# Altium schematic symbol library RbMotor_ECAT_RevB+.SchLib: 83 symbols
Pins are listed as number, name and electrical type; pins without a type are passive.

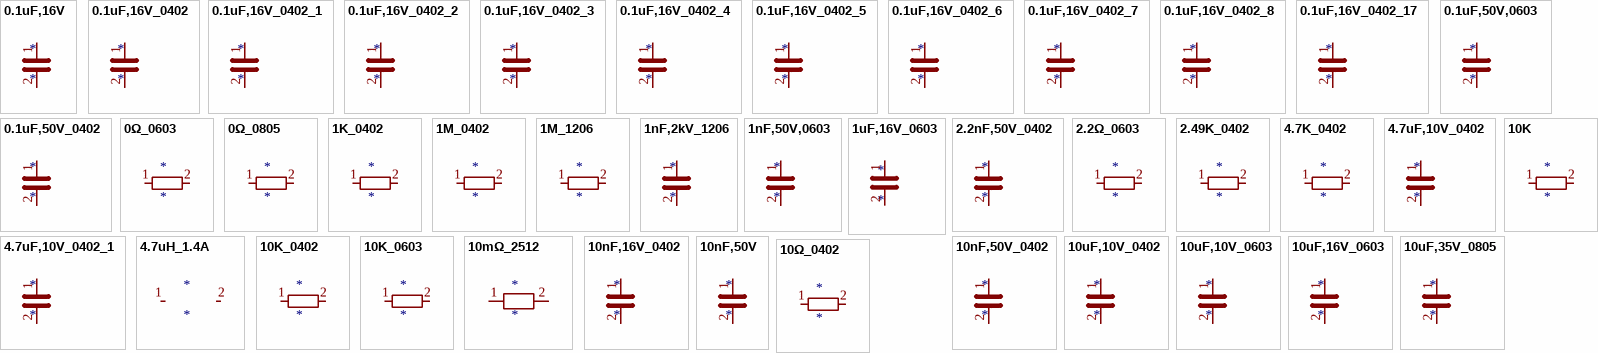
[diagram p0: symbols 0.1uF,16V to 10Ω_0402]

## 0.1uF,16V
designator *
pins: 1, 2

## 0.1uF,16V_0402
designator *
pins: 1, 2

## 0.1uF,16V_0402_1
designator *
pins: 1, 2

## 0.1uF,16V_0402_2
designator *
pins: 1, 2

## 0.1uF,16V_0402_3
designator *
pins: 1, 2

## 0.1uF,16V_0402_4
designator *
pins: 1, 2

## 0.1uF,16V_0402_5
designator *
pins: 1, 2

## 0.1uF,16V_0402_6
designator *
pins: 1, 2

## 0.1uF,16V_0402_7
designator *
pins: 1, 2

## 0.1uF,16V_0402_8
designator *
pins: 1, 2

## 0.1uF,16V_0402_17
designator *
pins: 1, 2

## 0.1uF,50V,0603
designator *
pins: 1, 2

## 0.1uF,50V_0402
designator *
pins: 1, 2

## 0Ω_0603
designator *
pins: 1, 2

## 0Ω_0805
designator *
pins: 1, 2

## 1K_0402
designator *
pins: 1, 2

## 1M_0402
designator *
pins: 1, 2

## 1M_1206
designator *
pins: 1, 2

## 1nF,2kV_1206
designator *
pins: 1, 2

## 1nF,50V,0603
designator *
pins: 1, 2

## 1uF,16V_0603
designator *
pins: 1, 2

## 2.2nF,50V_0402
designator *
pins: 1, 2

## 2.2Ω_0603
designator *
pins: 1, 2

## 2.49K_0402
designator *
pins: 1, 2

## 4.7K_0402
designator *
pins: 1, 2

## 4.7uF,10V_0402
designator *
pins: 1, 2

## 4.7uF,10V_0402_1
designator *
pins: 1, 2

## 4.7uH_1.4A
designator *
pins: 1, 2

## 10K
designator *
pins: 1, 2

## 10K_0402
designator *
pins: 1, 2

## 10K_0603
designator *
pins: 1, 2

## 10mΩ_2512
designator *
pins: 1, 2

## 10nF,16V_0402
designator *
pins: 1, 2

## 10nF,50V
designator *
pins: 1, 2

## 10nF,50V_0402
designator *
pins: 1, 2

## 10uF,10V_0402
designator *
pins: 1, 2

## 10uF,10V_0603
designator *
pins: 1, 2

## 10uF,16V_0603
designator *
pins: 1, 2

## 10uF,35V_0805
designator *
pins: 1, 2

## 10Ω_0402
designator *
pins: 1, 2

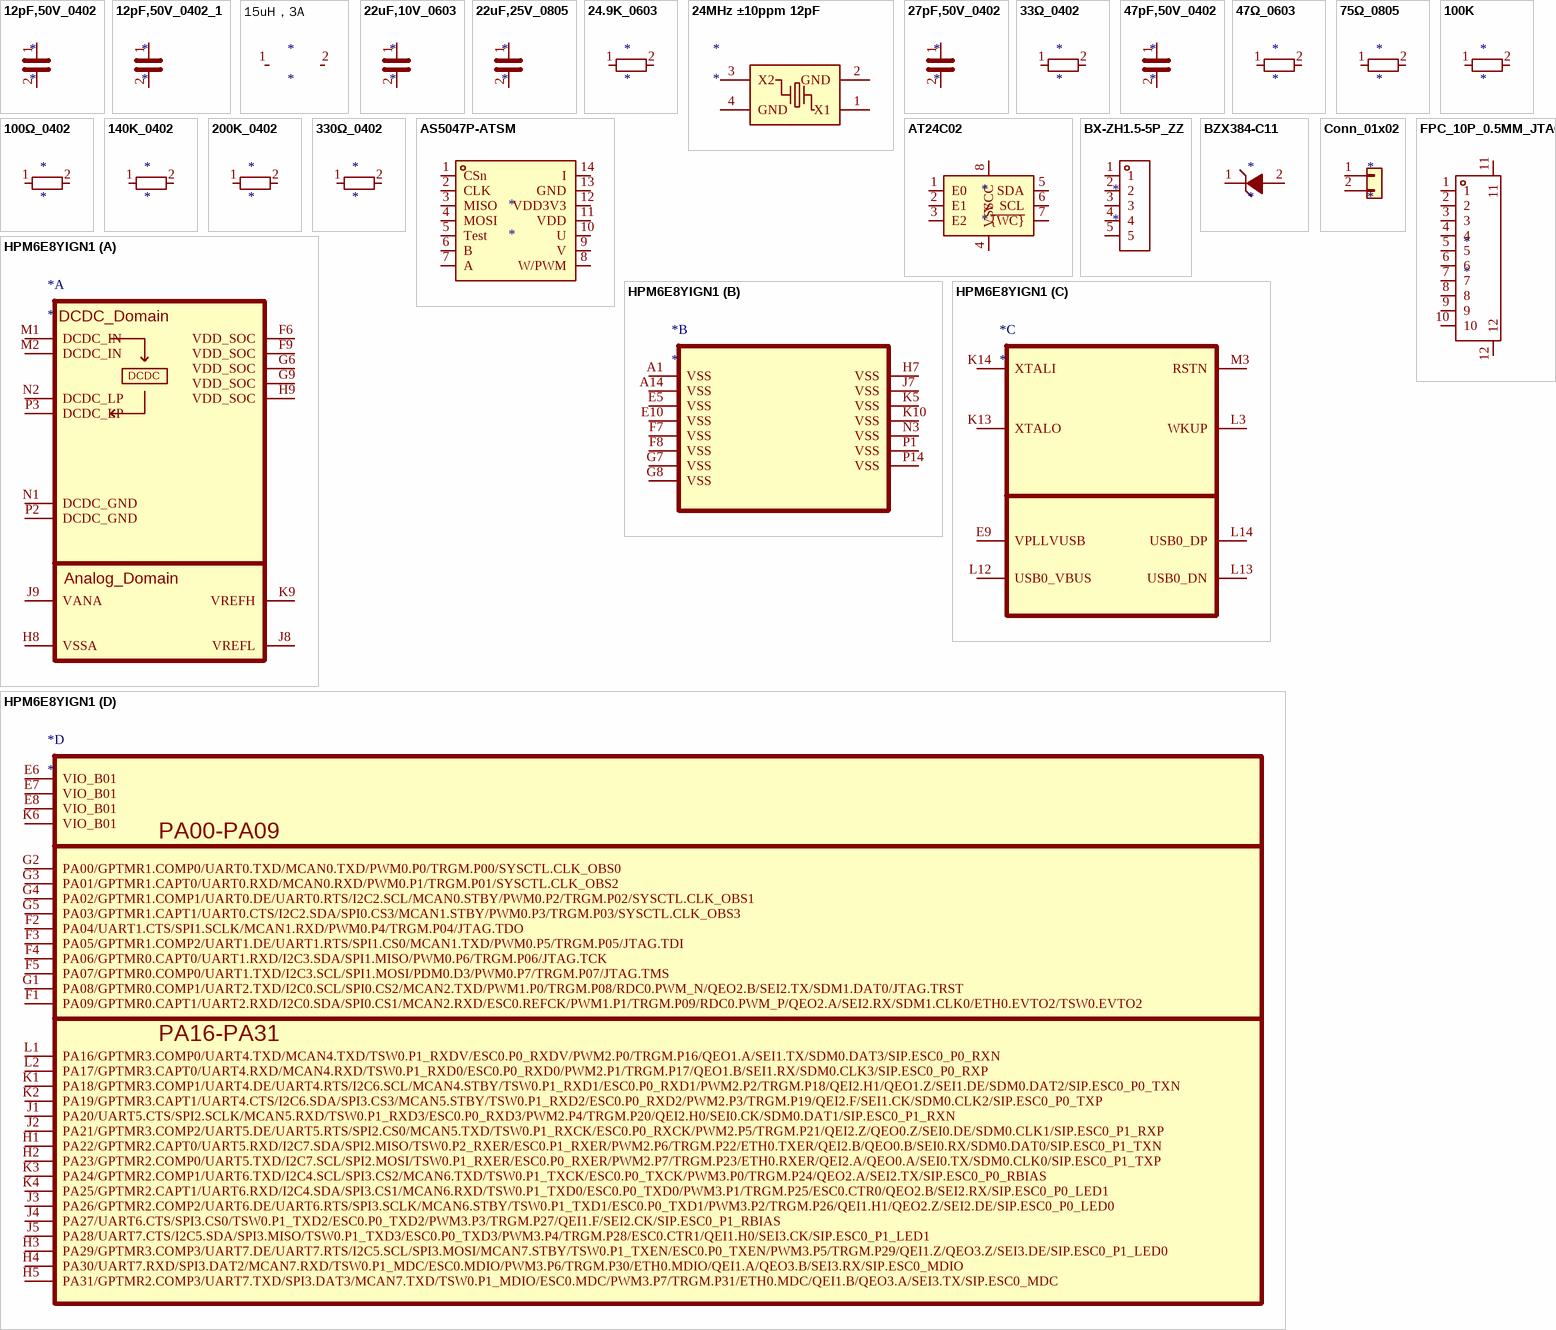
[diagram p1: symbols 12pF,50V_0402 to HPM6E8YIGN1]

## 12pF,50V_0402
designator *
pins: 1, 2

## 12pF,50V_0402_1
designator *
pins: 1, 2

## 15uH，3A
designator *
pins: 1, 2

## 22uF,10V_0603
designator *
pins: 1, 2

## 22uF,25V_0805
designator *
pins: 1, 2

## 24.9K_0603
designator *
pins: 1, 2

## 24MHz ±10ppm 12pF
designator *
pins: 1 X1, 2 GND, 3 X2, 4 GND

## 27pF,50V_0402
designator *
pins: 1, 2

## 33Ω_0402
designator *
pins: 1, 2

## 47pF,50V_0402
designator *
pins: 1, 2

## 47Ω_0603
designator *
pins: 1, 2

## 75Ω_0805
designator *
pins: 1, 2

## 100K
designator *
pins: 1, 2

## 100Ω_0402
designator *
pins: 1, 2

## 140K_0402
designator *
pins: 1, 2

## 200K_0402
designator *
pins: 1, 2

## 330Ω_0402
designator *
pins: 1, 2

## AS5047P-ATSM
designator *
pins: 1 CSn, 2 CLK, 3 MISO, 4 MOSI, 5 Test, 6 B, 7 A, 8 W/PWM, 9 V, 10 U, 11 VDD, 12 VDD3V3, 13 GND, 14 I

## AT24C02
designator *
pins: 1 E0, 2 E1, 3 E2, 4 VSS, 5 SDA, 6 SCL, 7 ~{{WC}}, 8 VCC

## BX-ZH1.5-5P_ZZ
designator *
pins: 1, 2, 3, 4, 5

## BZX384-C11
designator *
pins: 1 C, 2 A

## Conn_01x02
designator *
pins: 1 Pin_1, 2 Pin_2

## FPC_10P_0.5MM_JTAG
designator *
pins: 1, 2, 3, 4, 5, 6, 7, 8, 9, 10, 11, 12

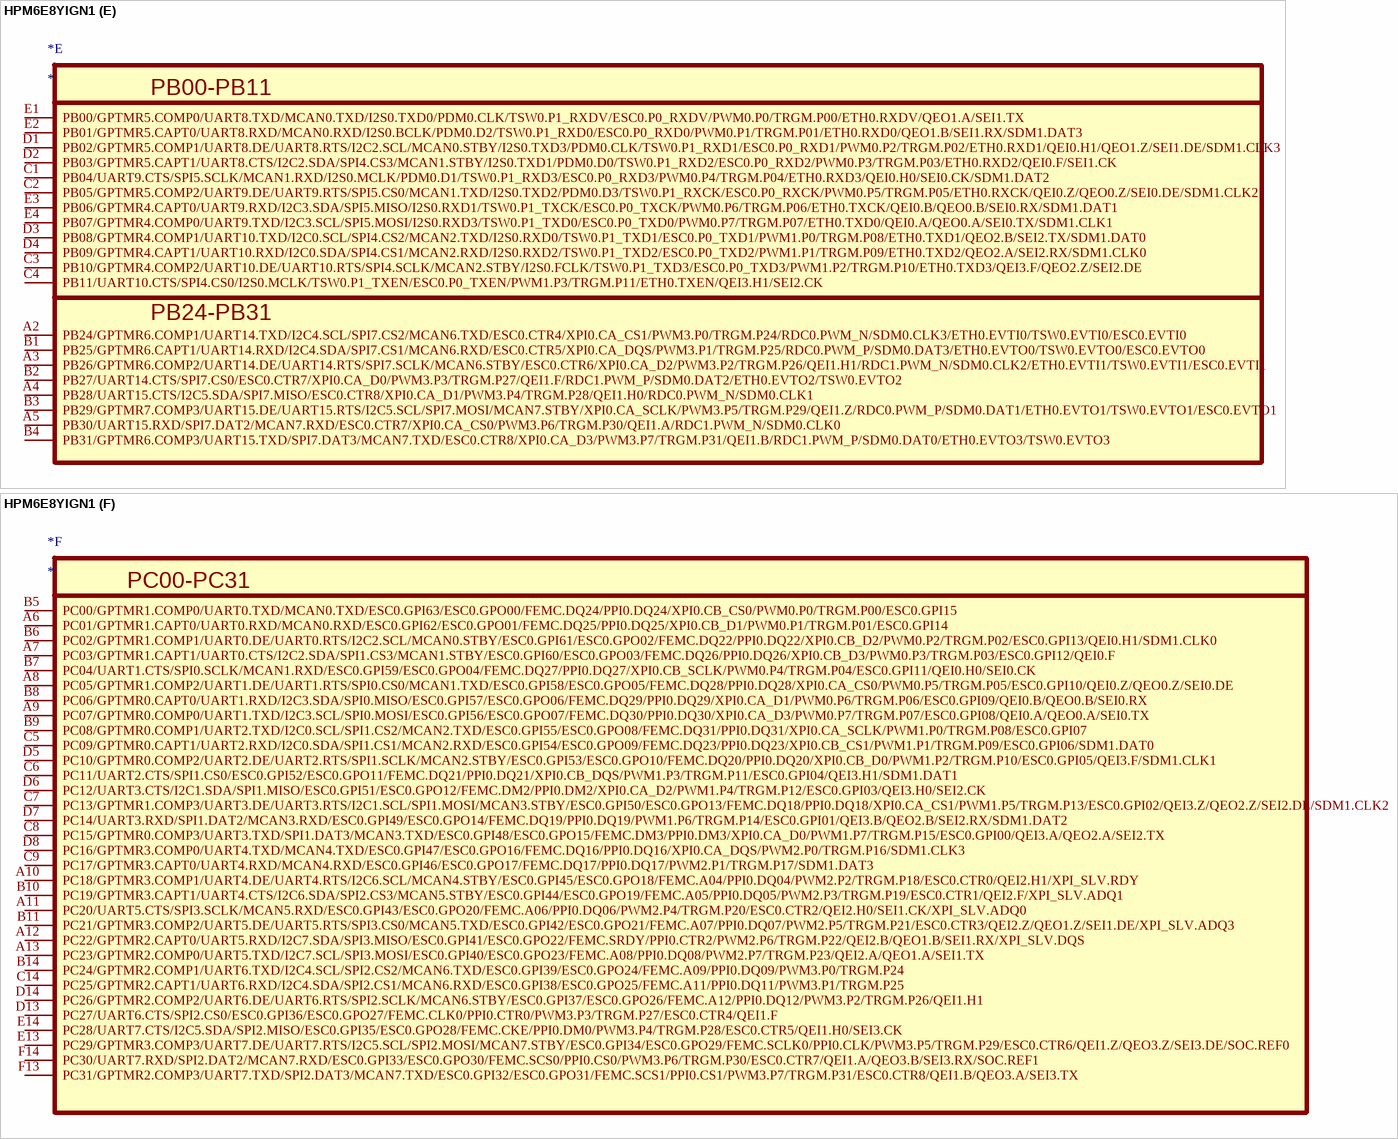
[diagram p2: symbol HPM6E8YIGN1]

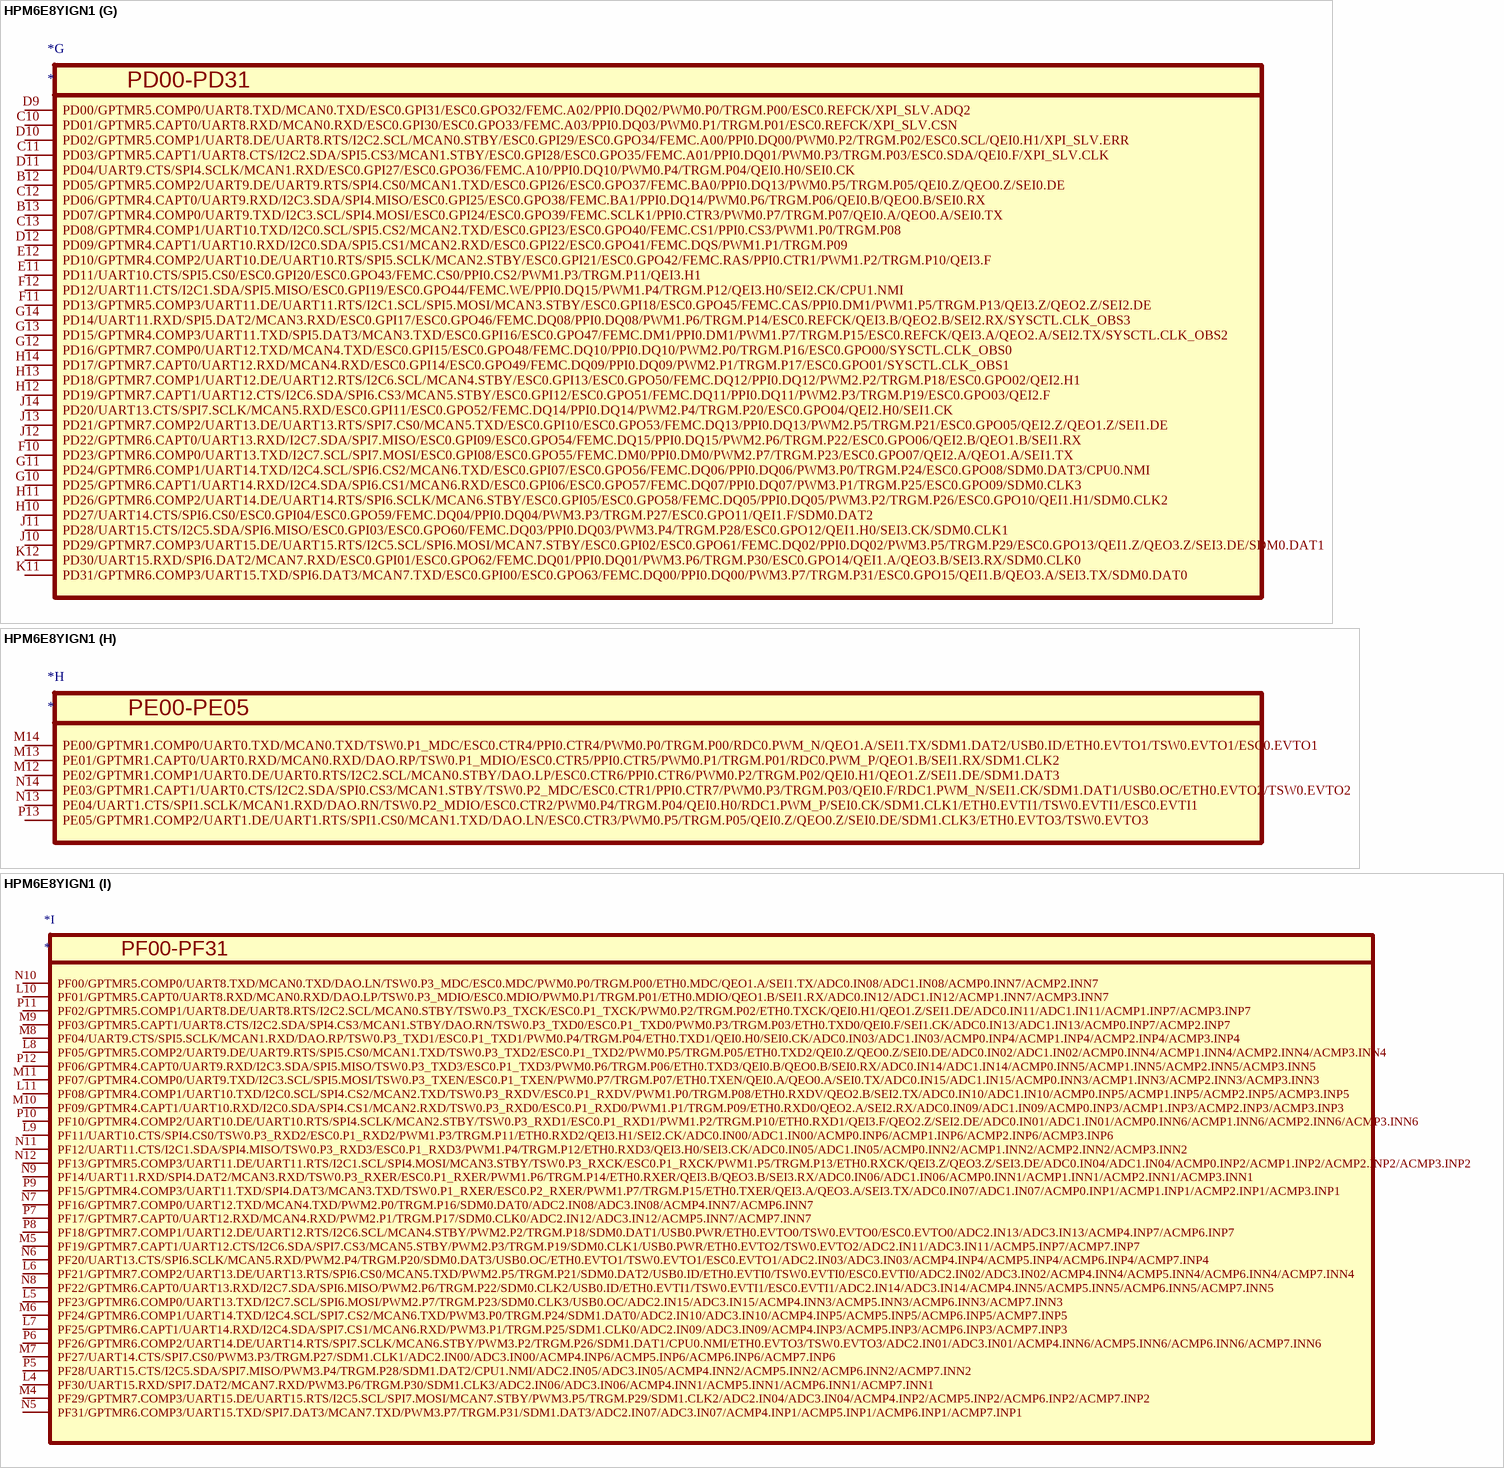
[diagram p3: symbol HPM6E8YIGN1]

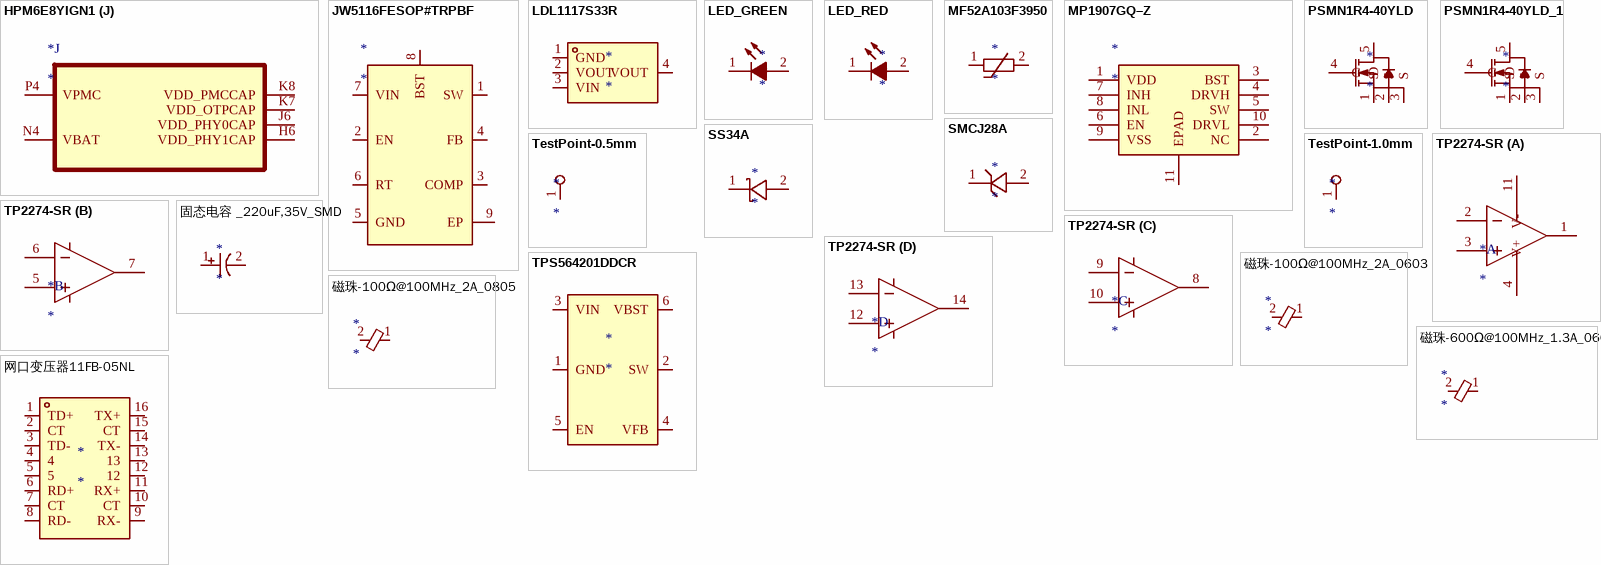
[diagram p4: symbols HPM6E8YIGN1 to 网口变压器11FB-05NL]

## HPM6E8YIGN1
designator *
part A pins: F6 VDD_SOC, F9 VDD_SOC, G6 VDD_SOC, G9 VDD_SOC, H8 VSSA, H9 VDD_SOC, J8 VREFL, J9 VANA, K9 VREFH, M1 DCDC_IN, M2 DCDC_IN, N1 DCDC_GND, N2 DCDC_LP, P2 DCDC_GND, P3 DCDC_LP
part B pins: A1 VSS, A14 VSS, E5 VSS, E10 VSS, F7 VSS, F8 VSS, G7 VSS, G8 VSS, H7 VSS, J7 VSS, K5 VSS, K10 VSS, N3 VSS, P1 VSS, P14 VSS
part C pins: E9 VPLLVUSB, K13 XTALO, K14 XTALI, L3 WKUP, L12 USB0_VBUS, L13 USB0_DN, L14 USB0_DP, M3 RSTN
part D pins: E6 VIO_B01, E7 VIO_B01, E8 VIO_B01, F1 PA09/GPTMR0.CAPT1/UART2.RXD/I2C0.SDA/SPI0.CS1/MCAN2.RXD/ESC0.REFCK/PWM1.P1/TRGM.P09/RDC0.PWM_P/QEO2.A/SEI2.RX/SDM1.CLK0/ETH0.EVTO2/TSW0.EVTO2, F2 PA04/UART1.CTS/SPI1.SCLK/MCAN1.RXD/PWM0.P4/TRGM.P04/JTAG.TDO, F3 PA05/GPTMR1.COMP2/UART1.DE/UART1.RTS/SPI1.CS0/MCAN1.TXD/PWM0.P5/TRGM.P05/JTAG.TDI, F4 PA06/GPTMR0.CAPT0/UART1.RXD/I2C3.SDA/SPI1.MISO/PWM0.P6/TRGM.P06/JTAG.TCK, F5 PA07/GPTMR0.COMP0/UART1.TXD/I2C3.SCL/SPI1.MOSI/PDM0.D3/PWM0.P7/TRGM.P07/JTAG.TMS, G1 PA08/GPTMR0.COMP1/UART2.TXD/I2C0.SCL/SPI0.CS2/MCAN2.TXD/PWM1.P0/TRGM.P08/RDC0.PWM_N/QEO2.B/SEI2.TX/SDM1.DAT0/JTAG.TRST, G2 PA00/GPTMR1.COMP0/UART0.TXD/MCAN0.TXD/PWM0.P0/TRGM.P00/SYSCTL.CLK_OBS0, G3 PA01/GPTMR1.CAPT0/UART0.RXD/MCAN0.RXD/PWM0.P1/TRGM.P01/SYSCTL.CLK_OBS2, G4 PA02/GPTMR1.COMP1/UART0.DE/UART0.RTS/I2C2.SCL/MCAN0.STBY/PWM0.P2/TRGM.P02/SYSCTL.CLK_OBS1, G5 PA03/GPTMR1.CAPT1/UART0.CTS/I2C2.SDA/SPI0.CS3/MCAN1.STBY/PWM0.P3/TRGM.P03/SYSCTL.CLK_OBS3, H1 PA22/GPTMR2.CAPT0/UART5.RXD/I2C7.SDA/SPI2.MISO/TSW0.P2_RXER/ESC0.P1_RXER/PWM2.P6/TRGM.P22/ETH0.TXER/QEI2.B/QEO0.B/SEI0.RX/SDM0.DAT0/SIP.ESC0_P1_TXN, H2 PA23/GPTMR2.COMP0/UART5.TXD/I2C7.SCL/SPI2.MOSI/TSW0.P1_RXER/ESC0.P0_RXER/PWM2.P7/TRGM.P23/ETH0.RXER/QEI2.A/QEO0.A/SEI0.TX/SDM0.CLK0/SIP.ESC0_P1_TXP, H3 PA29/GPTMR3.COMP3/UART7.DE/UART7.RTS/I2C5.SCL/SPI3.MOSI/MCAN7.STBY/TSW0.P1_TXEN/ESC0.P0_TXEN/PWM3.P5/TRGM.P29/QEI1.Z/QEO3.Z/SEI3.DE/SIP.ESC0_P1_LED0, H4 PA30/UART7.RXD/SPI3.DAT2/MCAN7.RXD/TSW0.P1_MDC/ESC0.MDIO/PWM3.P6/TRGM.P30/ETH0.MDIO/QEI1.A/QEO3.B/SEI3.RX/SIP.ESC0_MDIO, H5 PA31/GPTMR2.COMP3/UART7.TXD/SPI3.DAT3/MCAN7.TXD/TSW0.P1_MDIO/ESC0.MDC/PWM3.P7/TRGM.P31/ETH0.MDC/QEI1.B/QEO3.A/SEI3.TX/SIP.ESC0_MDC, J1 PA20/UART5.CTS/SPI2.SCLK/MCAN5.RXD/TSW0.P1_RXD3/ESC0.P0_RXD3/PWM2.P4/TRGM.P20/QEI2.H0/SEI0.CK/SDM0.DAT1/SIP.ESC0_P1_RXN, J2 PA21/GPTMR3.COMP2/UART5.DE/UART5.RTS/SPI2.CS0/MCAN5.TXD/TSW0.P1_RXCK/ESC0.P0_RXCK/PWM2.P5/TRGM.P21/QEI2.Z/QEO0.Z/SEI0.DE/SDM0.CLK1/SIP.ESC0_P1_RXP, J3 PA26/GPTMR2.COMP2/UART6.DE/UART6.RTS/SPI3.SCLK/MCAN6.STBY/TSW0.P1_TXD1/ESC0.P0_TXD1/PWM3.P2/TRGM.P26/QEI1.H1/QEO2.Z/SEI2.DE/SIP.ESC0_P0_LED0, J4 PA27/UART6.CTS/SPI3.CS0/TSW0.P1_TXD2/ESC0.P0_TXD2/PWM3.P3/TRGM.P27/QEI1.F/SEI2.CK/SIP.ESC0_P1_RBIAS, J5 PA28/UART7.CTS/I2C5.SDA/SPI3.MISO/TSW0.P1_TXD3/ESC0.P0_TXD3/PWM3.P4/TRGM.P28/ESC0.CTR1/QEI1.H0/SEI3.CK/SIP.ESC0_P1_LED1, K1 PA18/GPTMR3.COMP1/UART4.DE/UART4.RTS/I2C6.SCL/MCAN4.STBY/TSW0.P1_RXD1/ESC0.P0_RXD1/PWM2.P2/TRGM.P18/QEI2.H1/QEO1.Z/SEI1.DE/SDM0.DAT2/SIP.ESC0_P0_TXN, K2 PA19/GPTMR3.CAPT1/UART4.CTS/I2C6.SDA/SPI3.CS3/MCAN5.STBY/TSW0.P1_RXD2/ESC0.P0_RXD2/PWM2.P3/TRGM.P19/QEI2.F/SEI1.CK/SDM0.CLK2/SIP.ESC0_P0_TXP, K3 PA24/GPTMR2.COMP1/UART6.TXD/I2C4.SCL/SPI3.CS2/MCAN6.TXD/TSW0.P1_TXCK/ESC0.P0_TXCK/PWM3.P0/TRGM.P24/QEO2.A/SEI2.TX/SIP.ESC0_P0_RBIAS, K4 PA25/GPTMR2.CAPT1/UART6.RXD/I2C4.SDA/SPI3.CS1/MCAN6.RXD/TSW0.P1_TXD0/ESC0.P0_TXD0/PWM3.P1/TRGM.P25/ESC0.CTR0/QEO2.B/SEI2.RX/SIP.ESC0_P0_LED1, K6 VIO_B01, L1 PA16/GPTMR3.COMP0/UART4.TXD/MCAN4.TXD/TSW0.P1_RXDV/ESC0.P0_RXDV/PWM2.P0/TRGM.P16/QEO1.A/SEI1.TX/SDM0.DAT3/SIP.ESC0_P0_RXN, L2 PA17/GPTMR3.CAPT0/UART4.RXD/MCAN4.RXD/TSW0.P1_RXD0/ESC0.P0_RXD0/PWM2.P1/TRGM.P17/QEO1.B/SEI1.RX/SDM0.CLK3/SIP.ESC0_P0_RXP
part E pins: A2 PB24/GPTMR6.COMP1/UART14.TXD/I2C4.SCL/SPI7.CS2/MCAN6.TXD/ESC0.CTR4/XPI0.CA_CS1/PWM3.P0/TRGM.P24/RDC0.PWM_N/SDM0.CLK3/ETH0.EVTI0/TSW0.EVTI0/ESC0.EVTI0, A3 PB26/GPTMR6.COMP2/UART14.DE/UART14.RTS/SPI7.SCLK/MCAN6.STBY/ESC0.CTR6/XPI0.CA_D2/PWM3.P2/TRGM.P26/QEI1.H1/RDC1.PWM_N/SDM0.CLK2/ETH0.EVTI1/TSW0.EVTI1/ESC0.EVTI1, A4 PB28/UART15.CTS/I2C5.SDA/SPI7.MISO/ESC0.CTR8/XPI0.CA_D1/PWM3.P4/TRGM.P28/QEI1.H0/RDC0.PWM_N/SDM0.CLK1, A5 PB30/UART15.RXD/SPI7.DAT2/MCAN7.RXD/ESC0.CTR7/XPI0.CA_CS0/PWM3.P6/TRGM.P30/QEI1.A/RDC1.PWM_N/SDM0.CLK0, B1 PB25/GPTMR6.CAPT1/UART14.RXD/I2C4.SDA/SPI7.CS1/MCAN6.RXD/ESC0.CTR5/XPI0.CA_DQS/PWM3.P1/TRGM.P25/RDC0.PWM_P/SDM0.DAT3/ETH0.EVTO0/TSW0.EVTO0/ESC0.EVTO0, B2 PB27/UART14.CTS/SPI7.CS0/ESC0.CTR7/XPI0.CA_D0/PWM3.P3/TRGM.P27/QEI1.F/RDC1.PWM_P/SDM0.DAT2/ETH0.EVTO2/TSW0.EVTO2, B3 PB29/GPTMR7.COMP3/UART15.DE/UART15.RTS/I2C5.SCL/SPI7.MOSI/MCAN7.STBY/XPI0.CA_SCLK/PWM3.P5/TRGM.P29/QEI1.Z/RDC0.PWM_P/SDM0.DAT1/ETH0.EVTO1/TSW0.EVTO1/ESC0.EVTO1, B4 PB31/GPTMR6.COMP3/UART15.TXD/SPI7.DAT3/MCAN7.TXD/ESC0.CTR8/XPI0.CA_D3/PWM3.P7/TRGM.P31/QEI1.B/RDC1.PWM_P/SDM0.DAT0/ETH0.EVTO3/TSW0.EVTO3, C1 PB04/UART9.CTS/SPI5.SCLK/MCAN1.RXD/I2S0.MCLK/PDM0.D1/TSW0.P1_RXD3/ESC0.P0_RXD3/PWM0.P4/TRGM.P04/ETH0.RXD3/QEI0.H0/SEI0.CK/SDM1.DAT2, C2 PB05/GPTMR5.COMP2/UART9.DE/UART9.RTS/SPI5.CS0/MCAN1.TXD/I2S0.TXD2/PDM0.D3/TSW0.P1_RXCK/ESC0.P0_RXCK/PWM0.P5/TRGM.P05/ETH0.RXCK/QEI0.Z/QEO0.Z/SEI0.DE/SDM1.CLK2, C3 PB10/GPTMR4.COMP2/UART10.DE/UART10.RTS/SPI4.SCLK/MCAN2.STBY/I2S0.FCLK/TSW0.P1_TXD3/ESC0.P0_TXD3/PWM1.P2/TRGM.P10/ETH0.TXD3/QEI3.F/QEO2.Z/SEI2.DE, C4 PB11/UART10.CTS/SPI4.CS0/I2S0.MCLK/TSW0.P1_TXEN/ESC0.P0_TXEN/PWM1.P3/TRGM.P11/ETH0.TXEN/QEI3.H1/SEI2.CK, D1 PB02/GPTMR5.COMP1/UART8.DE/UART8.RTS/I2C2.SCL/MCAN0.STBY/I2S0.TXD3/PDM0.CLK/TSW0.P1_RXD1/ESC0.P0_RXD1/PWM0.P2/TRGM.P02/ETH0.RXD1/QEI0.H1/QEO1.Z/SEI1.DE/SDM1.CLK3, D2 PB03/GPTMR5.CAPT1/UART8.CTS/I2C2.SDA/SPI4.CS3/MCAN1.STBY/I2S0.TXD1/PDM0.D0/TSW0.P1_RXD2/ESC0.P0_RXD2/PWM0.P3/TRGM.P03/ETH0.RXD2/QEI0.F/SEI1.CK, D3 PB08/GPTMR4.COMP1/UART10.TXD/I2C0.SCL/SPI4.CS2/MCAN2.TXD/I2S0.RXD0/TSW0.P1_TXD1/ESC0.P0_TXD1/PWM1.P0/TRGM.P08/ETH0.TXD1/QEO2.B/SEI2.TX/SDM1.DAT0, D4 PB09/GPTMR4.CAPT1/UART10.RXD/I2C0.SDA/SPI4.CS1/MCAN2.RXD/I2S0.RXD2/TSW0.P1_TXD2/ESC0.P0_TXD2/PWM1.P1/TRGM.P09/ETH0.TXD2/QEO2.A/SEI2.RX/SDM1.CLK0, E1 PB00/GPTMR5.COMP0/UART8.TXD/MCAN0.TXD/I2S0.TXD0/PDM0.CLK/TSW0.P1_RXDV/ESC0.P0_RXDV/PWM0.P0/TRGM.P00/ETH0.RXDV/QEO1.A/SEI1.TX, E2 PB01/GPTMR5.CAPT0/UART8.RXD/MCAN0.RXD/I2S0.BCLK/PDM0.D2/TSW0.P1_RXD0/ESC0.P0_RXD0/PWM0.P1/TRGM.P01/ETH0.RXD0/QEO1.B/SEI1.RX/SDM1.DAT3, E3 PB06/GPTMR4.CAPT0/UART9.RXD/I2C3.SDA/SPI5.MISO/I2S0.RXD1/TSW0.P1_TXCK/ESC0.P0_TXCK/PWM0.P6/TRGM.P06/ETH0.TXCK/QEI0.B/QEO0.B/SEI0.RX/SDM1.DAT1, E4 PB07/GPTMR4.COMP0/UART9.TXD/I2C3.SCL/SPI5.MOSI/I2S0.RXD3/TSW0.P1_TXD0/ESC0.P0_TXD0/PWM0.P7/TRGM.P07/ETH0.TXD0/QEI0.A/QEO0.A/SEI0.TX/SDM1.CLK1
part F pins: A6 PC01/GPTMR1.CAPT0/UART0.RXD/MCAN0.RXD/ESC0.GPI62/ESC0.GPO01/FEMC.DQ25/PPI0.DQ25/XPI0.CB_D1/PWM0.P1/TRGM.P01/ESC0.GPI14, A7 PC03/GPTMR1.CAPT1/UART0.CTS/I2C2.SDA/SPI1.CS3/MCAN1.STBY/ESC0.GPI60/ESC0.GPO03/FEMC.DQ26/PPI0.DQ26/XPI0.CB_D3/PWM0.P3/TRGM.P03/ESC0.GPI12/QEI0.F, A8 PC05/GPTMR1.COMP2/UART1.DE/UART1.RTS/SPI0.CS0/MCAN1.TXD/ESC0.GPI58/ESC0.GPO05/FEMC.DQ28/PPI0.DQ28/XPI0.CA_CS0/PWM0.P5/TRGM.P05/ESC0.GPI10/QEI0.Z/QEO0.Z/SEI0.DE, A9 PC07/GPTMR0.COMP0/UART1.TXD/I2C3.SCL/SPI0.MOSI/ESC0.GPI56/ESC0.GPO07/FEMC.DQ30/PPI0.DQ30/XPI0.CA_D3/PWM0.P7/TRGM.P07/ESC0.GPI08/QEI0.A/QEO0.A/SEI0.TX, A10 PC18/GPTMR3.COMP1/UART4.DE/UART4.RTS/I2C6.SCL/MCAN4.STBY/ESC0.GPI45/ESC0.GPO18/FEMC.A04/PPI0.DQ04/PWM2.P2/TRGM.P18/ESC0.CTR0/QEI2.H1/XPI_SLV.RDY, A11 PC20/UART5.CTS/SPI3.SCLK/MCAN5.RXD/ESC0.GPI43/ESC0.GPO20/FEMC.A06/PPI0.DQ06/PWM2.P4/TRGM.P20/ESC0.CTR2/QEI2.H0/SEI1.CK/XPI_SLV.ADQ0, A12 PC22/GPTMR2.CAPT0/UART5.RXD/I2C7.SDA/SPI3.MISO/ESC0.GPI41/ESC0.GPO22/FEMC.SRDY/PPI0.CTR2/PWM2.P6/TRGM.P22/QEI2.B/QEO1.B/SEI1.RX/XPI_SLV.DQS, A13 PC23/GPTMR2.COMP0/UART5.TXD/I2C7.SCL/SPI3.MOSI/ESC0.GPI40/ESC0.GPO23/FEMC.A08/PPI0.DQ08/PWM2.P7/TRGM.P23/QEI2.A/QEO1.A/SEI1.TX, B5 PC00/GPTMR1.COMP0/UART0.TXD/MCAN0.TXD/ESC0.GPI63/ESC0.GPO00/FEMC.DQ24/PPI0.DQ24/XPI0.CB_CS0/PWM0.P0/TRGM.P00/ESC0.GPI15, B6 PC02/GPTMR1.COMP1/UART0.DE/UART0.RTS/I2C2.SCL/MCAN0.STBY/ESC0.GPI61/ESC0.GPO02/FEMC.DQ22/PPI0.DQ22/XPI0.CB_D2/PWM0.P2/TRGM.P02/ESC0.GPI13/QEI0.H1/SDM1.CLK0, B7 PC04/UART1.CTS/SPI0.SCLK/MCAN1.RXD/ESC0.GPI59/ESC0.GPO04/FEMC.DQ27/PPI0.DQ27/XPI0.CB_SCLK/PWM0.P4/TRGM.P04/ESC0.GPI11/QEI0.H0/SEI0.CK, B8 PC06/GPTMR0.CAPT0/UART1.RXD/I2C3.SDA/SPI0.MISO/ESC0.GPI57/ESC0.GPO06/FEMC.DQ29/PPI0.DQ29/XPI0.CA_D1/PWM0.P6/TRGM.P06/ESC0.GPI09/QEI0.B/QEO0.B/SEI0.RX, B9 PC08/GPTMR0.COMP1/UART2.TXD/I2C0.SCL/SPI1.CS2/MCAN2.TXD/ESC0.GPI55/ESC0.GPO08/FEMC.DQ31/PPI0.DQ31/XPI0.CA_SCLK/PWM1.P0/TRGM.P08/ESC0.GPI07, B10 PC19/GPTMR3.CAPT1/UART4.CTS/I2C6.SDA/SPI2.CS3/MCAN5.STBY/ESC0.GPI44/ESC0.GPO19/FEMC.A05/PPI0.DQ05/PWM2.P3/TRGM.P19/ESC0.CTR1/QEI2.F/XPI_SLV.ADQ1, B11 PC21/GPTMR3.COMP2/UART5.DE/UART5.RTS/SPI3.CS0/MCAN5.TXD/ESC0.GPI42/ESC0.GPO21/FEMC.A07/PPI0.DQ07/PWM2.P5/TRGM.P21/ESC0.CTR3/QEI2.Z/QEO1.Z/SEI1.DE/XPI_SLV.ADQ3, B14 PC24/GPTMR2.COMP1/UART6.TXD/I2C4.SCL/SPI2.CS2/MCAN6.TXD/ESC0.GPI39/ESC0.GPO24/FEMC.A09/PPI0.DQ09/PWM3.P0/TRGM.P24, C5 PC09/GPTMR0.CAPT1/UART2.RXD/I2C0.SDA/SPI1.CS1/MCAN2.RXD/ESC0.GPI54/ESC0.GPO09/FEMC.DQ23/PPI0.DQ23/XPI0.CB_CS1/PWM1.P1/TRGM.P09/ESC0.GPI06/SDM1.DAT0, C6 PC11/UART2.CTS/SPI1.CS0/ESC0.GPI52/ESC0.GPO11/FEMC.DQ21/PPI0.DQ21/XPI0.CB_DQS/PWM1.P3/TRGM.P11/ESC0.GPI04/QEI3.H1/SDM1.DAT1, C7 PC13/GPTMR1.COMP3/UART3.DE/UART3.RTS/I2C1.SCL/SPI1.MOSI/MCAN3.STBY/ESC0.GPI50/ESC0.GPO13/FEMC.DQ18/PPI0.DQ18/XPI0.CA_CS1/PWM1.P5/TRGM.P13/ESC0.GPI02/QEI3.Z/QEO2.Z/SEI2.DE/SDM1.CLK2, C8 PC15/GPTMR0.COMP3/UART3.TXD/SPI1.DAT3/MCAN3.TXD/ESC0.GPI48/ESC0.GPO15/FEMC.DM3/PPI0.DM3/XPI0.CA_D0/PWM1.P7/TRGM.P15/ESC0.GPI00/QEI3.A/QEO2.A/SEI2.TX, C9 PC17/GPTMR3.CAPT0/UART4.RXD/MCAN4.RXD/ESC0.GPI46/ESC0.GPO17/FEMC.DQ17/PPI0.DQ17/PWM2.P1/TRGM.P17/SDM1.DAT3, C14 PC25/GPTMR2.CAPT1/UART6.RXD/I2C4.SDA/SPI2.CS1/MCAN6.RXD/ESC0.GPI38/ESC0.GPO25/FEMC.A11/PPI0.DQ11/PWM3.P1/TRGM.P25, D5 PC10/GPTMR0.COMP2/UART2.DE/UART2.RTS/SPI1.SCLK/MCAN2.STBY/ESC0.GPI53/ESC0.GPO10/FEMC.DQ20/PPI0.DQ20/XPI0.CB_D0/PWM1.P2/TRGM.P10/ESC0.GPI05/QEI3.F/SDM1.CLK1, D6 PC12/UART3.CTS/I2C1.SDA/SPI1.MISO/ESC0.GPI51/ESC0.GPO12/FEMC.DM2/PPI0.DM2/XPI0.CA_D2/PWM1.P4/TRGM.P12/ESC0.GPI03/QEI3.H0/SEI2.CK, D7 PC14/UART3.RXD/SPI1.DAT2/MCAN3.RXD/ESC0.GPI49/ESC0.GPO14/FEMC.DQ19/PPI0.DQ19/PWM1.P6/TRGM.P14/ESC0.GPI01/QEI3.B/QEO2.B/SEI2.RX/SDM1.DAT2, D8 PC16/GPTMR3.COMP0/UART4.TXD/MCAN4.TXD/ESC0.GPI47/ESC0.GPO16/FEMC.DQ16/PPI0.DQ16/XPI0.CA_DQS/PWM2.P0/TRGM.P16/SDM1.CLK3, D13 PC27/UART6.CTS/SPI2.CS0/ESC0.GPI36/ESC0.GPO27/FEMC.CLK0/PPI0.CTR0/PWM3.P3/TRGM.P27/ESC0.CTR4/QEI1.F, D14 PC26/GPTMR2.COMP2/UART6.DE/UART6.RTS/SPI2.SCLK/MCAN6.STBY/ESC0.GPI37/ESC0.GPO26/FEMC.A12/PPI0.DQ12/PWM3.P2/TRGM.P26/QEI1.H1, E13 PC29/GPTMR3.COMP3/UART7.DE/UART7.RTS/I2C5.SCL/SPI2.MOSI/MCAN7.STBY/ESC0.GPI34/ESC0.GPO29/FEMC.SCLK0/PPI0.CLK/PWM3.P5/TRGM.P29/ESC0.CTR6/QEI1.Z/QEO3.Z/SEI3.DE/SOC.REF0, E14 PC28/UART7.CTS/I2C5.SDA/SPI2.MISO/ESC0.GPI35/ESC0.GPO28/FEMC.CKE/PPI0.DM0/PWM3.P4/TRGM.P28/ESC0.CTR5/QEI1.H0/SEI3.CK, F13 PC31/GPTMR2.COMP3/UART7.TXD/SPI2.DAT3/MCAN7.TXD/ESC0.GPI32/ESC0.GPO31/FEMC.SCS1/PPI0.CS1/PWM3.P7/TRGM.P31/ESC0.CTR8/QEI1.B/QEO3.A/SEI3.TX, F14 PC30/UART7.RXD/SPI2.DAT2/MCAN7.RXD/ESC0.GPI33/ESC0.GPO30/FEMC.SCS0/PPI0.CS0/PWM3.P6/TRGM.P30/ESC0.CTR7/QEI1.A/QEO3.B/SEI3.RX/SOC.REF1
part G pins: B12 PD05/GPTMR5.COMP2/UART9.DE/UART9.RTS/SPI4.CS0/MCAN1.TXD/ESC0.GPI26/ESC0.GPO37/FEMC.BA0/PPI0.DQ13/PWM0.P5/TRGM.P05/QEI0.Z/QEO0.Z/SEI0.DE, B13 PD07/GPTMR4.COMP0/UART9.TXD/I2C3.SCL/SPI4.MOSI/ESC0.GPI24/ESC0.GPO39/FEMC.SCLK1/PPI0.CTR3/PWM0.P7/TRGM.P07/QEI0.A/QEO0.A/SEI0.TX, C10 PD01/GPTMR5.CAPT0/UART8.RXD/MCAN0.RXD/ESC0.GPI30/ESC0.GPO33/FEMC.A03/PPI0.DQ03/PWM0.P1/TRGM.P01/ESC0.REFCK/XPI_SLV.CSN, C11 PD03/GPTMR5.CAPT1/UART8.CTS/I2C2.SDA/SPI5.CS3/MCAN1.STBY/ESC0.GPI28/ESC0.GPO35/FEMC.A01/PPI0.DQ01/PWM0.P3/TRGM.P03/ESC0.SDA/QEI0.F/XPI_SLV.CLK, C12 PD06/GPTMR4.CAPT0/UART9.RXD/I2C3.SDA/SPI4.MISO/ESC0.GPI25/ESC0.GPO38/FEMC.BA1/PPI0.DQ14/PWM0.P6/TRGM.P06/QEI0.B/QEO0.B/SEI0.RX, C13 PD08/GPTMR4.COMP1/UART10.TXD/I2C0.SCL/SPI5.CS2/MCAN2.TXD/ESC0.GPI23/ESC0.GPO40/FEMC.CS1/PPI0.CS3/PWM1.P0/TRGM.P08, D9 PD00/GPTMR5.COMP0/UART8.TXD/MCAN0.TXD/ESC0.GPI31/ESC0.GPO32/FEMC.A02/PPI0.DQ02/PWM0.P0/TRGM.P00/ESC0.REFCK/XPI_SLV.ADQ2, D10 PD02/GPTMR5.COMP1/UART8.DE/UART8.RTS/I2C2.SCL/MCAN0.STBY/ESC0.GPI29/ESC0.GPO34/FEMC.A00/PPI0.DQ00/PWM0.P2/TRGM.P02/ESC0.SCL/QEI0.H1/XPI_SLV.ERR, D11 PD04/UART9.CTS/SPI4.SCLK/MCAN1.RXD/ESC0.GPI27/ESC0.GPO36/FEMC.A10/PPI0.DQ10/PWM0.P4/TRGM.P04/QEI0.H0/SEI0.CK, D12 PD09/GPTMR4.CAPT1/UART10.RXD/I2C0.SDA/SPI5.CS1/MCAN2.RXD/ESC0.GPI22/ESC0.GPO41/FEMC.DQS/PWM1.P1/TRGM.P09, E11 PD11/UART10.CTS/SPI5.CS0/ESC0.GPI20/ESC0.GPO43/FEMC.CS0/PPI0.CS2/PWM1.P3/TRGM.P11/QEI3.H1, E12 PD10/GPTMR4.COMP2/UART10.DE/UART10.RTS/SPI5.SCLK/MCAN2.STBY/ESC0.GPI21/ESC0.GPO42/FEMC.RAS/PPI0.CTR1/PWM1.P2/TRGM.P10/QEI3.F, F10 PD23/GPTMR6.COMP0/UART13.TXD/I2C7.SCL/SPI7.MOSI/ESC0.GPI08/ESC0.GPO55/FEMC.DM0/PPI0.DM0/PWM2.P7/TRGM.P23/ESC0.GPO07/QEI2.A/QEO1.A/SEI1.TX, F11 PD13/GPTMR5.COMP3/UART11.DE/UART11.RTS/I2C1.SCL/SPI5.MOSI/MCAN3.STBY/ESC0.GPI18/ESC0.GPO45/FEMC.CAS/PPI0.DM1/PWM1.P5/TRGM.P13/QEI3.Z/QEO2.Z/SEI2.DE, F12 PD12/UART11.CTS/I2C1.SDA/SPI5.MISO/ESC0.GPI19/ESC0.GPO44/FEMC.WE/PPI0.DQ15/PWM1.P4/TRGM.P12/QEI3.H0/SEI2.CK/CPU1.NMI, G10 PD25/GPTMR6.CAPT1/UART14.RXD/I2C4.SDA/SPI6.CS1/MCAN6.RXD/ESC0.GPI06/ESC0.GPO57/FEMC.DQ07/PPI0.DQ07/PWM3.P1/TRGM.P25/ESC0.GPO09/SDM0.CLK3, G11 PD24/GPTMR6.COMP1/UART14.TXD/I2C4.SCL/SPI6.CS2/MCAN6.TXD/ESC0.GPI07/ESC0.GPO56/FEMC.DQ06/PPI0.DQ06/PWM3.P0/TRGM.P24/ESC0.GPO08/SDM0.DAT3/CPU0.NMI, G12 PD16/GPTMR7.COMP0/UART12.TXD/MCAN4.TXD/ESC0.GPI15/ESC0.GPO48/FEMC.DQ10/PPI0.DQ10/PWM2.P0/TRGM.P16/ESC0.GPO00/SYSCTL.CLK_OBS0, G13 PD15/GPTMR4.COMP3/UART11.TXD/SPI5.DAT3/MCAN3.TXD/ESC0.GPI16/ESC0.GPO47/FEMC.DM1/PPI0.DM1/PWM1.P7/TRGM.P15/ESC0.REFCK/QEI3.A/QEO2.A/SEI2.TX/SYSCTL.CLK_OBS2, G14 PD14/UART11.RXD/SPI5.DAT2/MCAN3.RXD/ESC0.GPI17/ESC0.GPO46/FEMC.DQ08/PPI0.DQ08/PWM1.P6/TRGM.P14/ESC0.REFCK/QEI3.B/QEO2.B/SEI2.RX/SYSCTL.CLK_OBS3, H10 PD27/UART14.CTS/SPI6.CS0/ESC0.GPI04/ESC0.GPO59/FEMC.DQ04/PPI0.DQ04/PWM3.P3/TRGM.P27/ESC0.GPO11/QEI1.F/SDM0.DAT2, H11 PD26/GPTMR6.COMP2/UART14.DE/UART14.RTS/SPI6.SCLK/MCAN6.STBY/ESC0.GPI05/ESC0.GPO58/FEMC.DQ05/PPI0.DQ05/PWM3.P2/TRGM.P26/ESC0.GPO10/QEI1.H1/SDM0.CLK2, H12 PD19/GPTMR7.CAPT1/UART12.CTS/I2C6.SDA/SPI6.CS3/MCAN5.STBY/ESC0.GPI12/ESC0.GPO51/FEMC.DQ11/PPI0.DQ11/PWM2.P3/TRGM.P19/ESC0.GPO03/QEI2.F, H13 PD18/GPTMR7.COMP1/UART12.DE/UART12.RTS/I2C6.SCL/MCAN4.STBY/ESC0.GPI13/ESC0.GPO50/FEMC.DQ12/PPI0.DQ12/PWM2.P2/TRGM.P18/ESC0.GPO02/QEI2.H1, H14 PD17/GPTMR7.CAPT0/UART12.RXD/MCAN4.RXD/ESC0.GPI14/ESC0.GPO49/FEMC.DQ09/PPI0.DQ09/PWM2.P1/TRGM.P17/ESC0.GPO01/SYSCTL.CLK_OBS1, J10 PD29/GPTMR7.COMP3/UART15.DE/UART15.RTS/I2C5.SCL/SPI6.MOSI/MCAN7.STBY/ESC0.GPI02/ESC0.GPO61/FEMC.DQ02/PPI0.DQ02/PWM3.P5/TRGM.P29/ESC0.GPO13/QEI1.Z/QEO3.Z/SEI3.DE/SDM0.DAT1, J11 PD28/UART15.CTS/I2C5.SDA/SPI6.MISO/ESC0.GPI03/ESC0.GPO60/FEMC.DQ03/PPI0.DQ03/PWM3.P4/TRGM.P28/ESC0.GPO12/QEI1.H0/SEI3.CK/SDM0.CLK1, J12 PD22/GPTMR6.CAPT0/UART13.RXD/I2C7.SDA/SPI7.MISO/ESC0.GPI09/ESC0.GPO54/FEMC.DQ15/PPI0.DQ15/PWM2.P6/TRGM.P22/ESC0.GPO06/QEI2.B/QEO1.B/SEI1.RX, J13 PD21/GPTMR7.COMP2/UART13.DE/UART13.RTS/SPI7.CS0/MCAN5.TXD/ESC0.GPI10/ESC0.GPO53/FEMC.DQ13/PPI0.DQ13/PWM2.P5/TRGM.P21/ESC0.GPO05/QEI2.Z/QEO1.Z/SEI1.DE, J14 PD20/UART13.CTS/SPI7.SCLK/MCAN5.RXD/ESC0.GPI11/ESC0.GPO52/FEMC.DQ14/PPI0.DQ14/PWM2.P4/TRGM.P20/ESC0.GPO04/QEI2.H0/SEI1.CK, K11 PD31/GPTMR6.COMP3/UART15.TXD/SPI6.DAT3/MCAN7.TXD/ESC0.GPI00/ESC0.GPO63/FEMC.DQ00/PPI0.DQ00/PWM3.P7/TRGM.P31/ESC0.GPO15/QEI1.B/QEO3.A/SEI3.TX/SDM0.DAT0, K12 PD30/UART15.RXD/SPI6.DAT2/MCAN7.RXD/ESC0.GPI01/ESC0.GPO62/FEMC.DQ01/PPI0.DQ01/PWM3.P6/TRGM.P30/ESC0.GPO14/QEI1.A/QEO3.B/SEI3.RX/SDM0.CLK0
part H pins: M12 PE02/GPTMR1.COMP1/UART0.DE/UART0.RTS/I2C2.SCL/MCAN0.STBY/DAO.LP/ESC0.CTR6/PPI0.CTR6/PWM0.P2/TRGM.P02/QEI0.H1/QEO1.Z/SEI1.DE/SDM1.DAT3, M13 PE01/GPTMR1.CAPT0/UART0.RXD/MCAN0.RXD/DAO.RP/TSW0.P1_MDIO/ESC0.CTR5/PPI0.CTR5/PWM0.P1/TRGM.P01/RDC0.PWM_P/QEO1.B/SEI1.RX/SDM1.CLK2, M14 PE00/GPTMR1.COMP0/UART0.TXD/MCAN0.TXD/TSW0.P1_MDC/ESC0.CTR4/PPI0.CTR4/PWM0.P0/TRGM.P00/RDC0.PWM_N/QEO1.A/SEI1.TX/SDM1.DAT2/USB0.ID/ETH0.EVTO1/TSW0.EVTO1/ESC0.EVTO1, N13 PE04/UART1.CTS/SPI1.SCLK/MCAN1.RXD/DAO.RN/TSW0.P2_MDIO/ESC0.CTR2/PWM0.P4/TRGM.P04/QEI0.H0/RDC1.PWM_P/SEI0.CK/SDM1.CLK1/ETH0.EVTI1/TSW0.EVTI1/ESC0.EVTI1, N14 PE03/GPTMR1.CAPT1/UART0.CTS/I2C2.SDA/SPI0.CS3/MCAN1.STBY/TSW0.P2_MDC/ESC0.CTR1/PPI0.CTR7/PWM0.P3/TRGM.P03/QEI0.F/RDC1.PWM_N/SEI1.CK/SDM1.DAT1/USB0.OC/ETH0.EVTO2/TSW0.EVTO2, P13 PE05/GPTMR1.COMP2/UART1.DE/UART1.RTS/SPI1.CS0/MCAN1.TXD/DAO.LN/ESC0.CTR3/PWM0.P5/TRGM.P05/QEI0.Z/QEO0.Z/SEI0.DE/SDM1.CLK3/ETH0.EVTO3/TSW0.EVTO3
part I pins: L4 PF30/UART15.RXD/SPI7.DAT2/MCAN7.RXD/PWM3.P6/TRGM.P30/SDM1.CLK3/ADC2.IN06/ADC3.IN06/ACMP4.INN1/ACMP5.INN1/ACMP6.INN1/ACMP7.INN1, L5 PF23/GPTMR6.COMP0/UART13.TXD/I2C7.SCL/SPI6.MOSI/PWM2.P7/TRGM.P23/SDM0.CLK3/USB0.OC/ADC2.IN15/ADC3.IN15/ACMP4.INN3/ACMP5.INN3/ACMP6.INN3/ACMP7.INN3, L6 PF21/GPTMR7.COMP2/UART13.DE/UART13.RTS/SPI6.CS0/MCAN5.TXD/PWM2.P5/TRGM.P21/SDM0.DAT2/USB0.ID/ETH0.EVTI0/TSW0.EVTI0/ESC0.EVTI0/ADC2.IN02/ADC3.IN02/ACMP4.INN4/ACMP5.INN4/ACMP6.INN4/ACMP7.INN4, L7 PF25/GPTMR6.CAPT1/UART14.RXD/I2C4.SDA/SPI7.CS1/MCAN6.RXD/PWM3.P1/TRGM.P25/SDM1.CLK0/ADC2.IN09/ADC3.IN09/ACMP4.INP3/ACMP5.INP3/ACMP6.INP3/ACMP7.INP3, L8 PF05/GPTMR5.COMP2/UART9.DE/UART9.RTS/SPI5.CS0/MCAN1.TXD/TSW0.P3_TXD2/ESC0.P1_TXD2/PWM0.P5/TRGM.P05/ETH0.TXD2/QEI0.Z/QEO0.Z/SEI0.DE/ADC0.IN02/ADC1.IN02/ACMP0.INN4/ACMP1.INN4/ACMP2.INN4/ACMP3.INN4, L9 PF11/UART10.CTS/SPI4.CS0/TSW0.P3_RXD2/ESC0.P1_RXD2/PWM1.P3/TRGM.P11/ETH0.RXD2/QEI3.H1/SEI2.CK/ADC0.IN00/ADC1.IN00/ACMP0.INP6/ACMP1.INP6/ACMP2.INP6/ACMP3.INP6, L10 PF01/GPTMR5.CAPT0/UART8.RXD/MCAN0.RXD/DAO.LP/TSW0.P3_MDIO/ESC0.MDIO/PWM0.P1/TRGM.P01/ETH0.MDIO/QEO1.B/SEI1.RX/ADC0.IN12/ADC1.IN12/ACMP1.INN7/ACMP3.INN7, L11 PF08/GPTMR4.COMP1/UART10.TXD/I2C0.SCL/SPI4.CS2/MCAN2.TXD/TSW0.P3_RXDV/ESC0.P1_RXDV/PWM1.P0/TRGM.P08/ETH0.RXDV/QEO2.B/SEI2.TX/ADC0.IN10/ADC1.IN10/ACMP0.INP5/ACMP1.INP5/ACMP2.INP5/ACMP3.INP5, M4 PF29/GPTMR7.COMP3/UART15.DE/UART15.RTS/I2C5.SCL/SPI7.MOSI/MCAN7.STBY/PWM3.P5/TRGM.P29/SDM1.CLK2/ADC2.IN04/ADC3.IN04/ACMP4.INP2/ACMP5.INP2/ACMP6.INP2/ACMP7.INP2, M5 PF19/GPTMR7.CAPT1/UART12.CTS/I2C6.SDA/SPI7.CS3/MCAN5.STBY/PWM2.P3/TRGM.P19/SDM0.CLK1/USB0.PWR/ETH0.EVTO2/TSW0.EVTO2/ADC2.IN11/ADC3.IN11/ACMP5.INP7/ACMP7.INP7, M6 PF24/GPTMR6.COMP1/UART14.TXD/I2C4.SCL/SPI7.CS2/MCAN6.TXD/PWM3.P0/TRGM.P24/SDM1.DAT0/ADC2.IN10/ADC3.IN10/ACMP4.INP5/ACMP5.INP5/ACMP6.INP5/ACMP7.INP5, M7 PF27/UART14.CTS/SPI7.CS0/PWM3.P3/TRGM.P27/SDM1.CLK1/ADC2.IN00/ADC3.IN00/ACMP4.INP6/ACMP5.INP6/ACMP6.INP6/ACMP7.INP6, M8 PF04/UART9.CTS/SPI5.SCLK/MCAN1.RXD/DAO.RP/TSW0.P3_TXD1/ESC0.P1_TXD1/PWM0.P4/TRGM.P04/ETH0.TXD1/QEI0.H0/SEI0.CK/ADC0.IN03/ADC1.IN03/ACMP0.INP4/ACMP1.INP4/ACMP2.INP4/ACMP3.INP4, M9 PF03/GPTMR5.CAPT1/UART8.CTS/I2C2.SDA/SPI4.CS3/MCAN1.STBY/DAO.RN/TSW0.P3_TXD0/ESC0.P1_TXD0/PWM0.P3/TRGM.P03/ETH0.TXD0/QEI0.F/SEI1.CK/ADC0.IN13/ADC1.IN13/ACMP0.INP7/ACMP2.INP7, M10 PF09/GPTMR4.CAPT1/UART10.RXD/I2C0.SDA/SPI4.CS1/MCAN2.RXD/TSW0.P3_RXD0/ESC0.P1_RXD0/PWM1.P1/TRGM.P09/ETH0.RXD0/QEO2.A/SEI2.RX/ADC0.IN09/ADC1.IN09/ACMP0.INP3/ACMP1.INP3/ACMP2.INP3/ACMP3.INP3, M11 PF07/GPTMR4.COMP0/UART9.TXD/I2C3.SCL/SPI5.MOSI/TSW0.P3_TXEN/ESC0.P1_TXEN/PWM0.P7/TRGM.P07/ETH0.TXEN/QEI0.A/QEO0.A/SEI0.TX/ADC0.IN15/ADC1.IN15/ACMP0.INN3/ACMP1.INN3/ACMP2.INN3/ACMP3.INN3, N5 PF31/GPTMR6.COMP3/UART15.TXD/SPI7.DAT3/MCAN7.TXD/PWM3.P7/TRGM.P31/SDM1.DAT3/ADC2.IN07/ADC3.IN07/ACMP4.INP1/ACMP5.INP1/ACMP6.INP1/ACMP7.INP1, N6 PF20/UART13.CTS/SPI6.SCLK/MCAN5.RXD/PWM2.P4/TRGM.P20/SDM0.DAT3/USB0.OC/ETH0.EVTO1/TSW0.EVTO1/ESC0.EVTO1/ADC2.IN03/ADC3.IN03/ACMP4.INP4/ACMP5.INP4/ACMP6.INP4/ACMP7.INP4, N7 PF16/GPTMR7.COMP0/UART12.TXD/MCAN4.TXD/PWM2.P0/TRGM.P16/SDM0.DAT0/ADC2.IN08/ADC3.IN08/ACMP4.INN7/ACMP6.INN7, N8 PF22/GPTMR6.CAPT0/UART13.RXD/I2C7.SDA/SPI6.MISO/PWM2.P6/TRGM.P22/SDM0.CLK2/USB0.ID/ETH0.EVTI1/TSW0.EVTI1/ESC0.EVTI1/ADC2.IN14/ADC3.IN14/ACMP4.INN5/ACMP5.INN5/ACMP6.INN5/ACMP7.INN5, N9 PF14/UART11.RXD/SPI4.DAT2/MCAN3.RXD/TSW0.P3_RXER/ESC0.P1_RXER/PWM1.P6/TRGM.P14/ETH0.RXER/QEI3.B/QEO3.B/SEI3.RX/ADC0.IN06/ADC1.IN06/ACMP0.INN1/ACMP1.INN1/ACMP2.INN1/ACMP3.INN1, N10 PF00/GPTMR5.COMP0/UART8.TXD/MCAN0.TXD/DAO.LN/TSW0.P3_MDC/ESC0.MDC/PWM0.P0/TRGM.P00/ETH0.MDC/QEO1.A/SEI1.TX/ADC0.IN08/ADC1.IN08/ACMP0.INN7/ACMP2.INN7, N11 PF12/UART11.CTS/I2C1.SDA/SPI4.MISO/TSW0.P3_RXD3/ESC0.P1_RXD3/PWM1.P4/TRGM.P12/ETH0.RXD3/QEI3.H0/SEI3.CK/ADC0.IN05/ADC1.IN05/ACMP0.INN2/ACMP1.INN2/ACMP2.INN2/ACMP3.INN2, N12 PF13/GPTMR5.COMP3/UART11.DE/UART11.RTS/I2C1.SCL/SPI4.MOSI/MCAN3.STBY/TSW0.P3_RXCK/ESC0.P1_RXCK/PWM1.P5/TRGM.P13/ETH0.RXCK/QEI3.Z/QEO3.Z/SEI3.DE/ADC0.IN04/ADC1.IN04/ACMP0.INP2/ACMP1.INP2/ACMP2.INP2/ACMP3.INP2, P5 PF28/UART15.CTS/I2C5.SDA/SPI7.MISO/PWM3.P4/TRGM.P28/SDM1.DAT2/CPU1.NMI/ADC2.IN05/ADC3.IN05/ACMP4.INN2/ACMP5.INN2/ACMP6.INN2/ACMP7.INN2, P6 PF26/GPTMR6.COMP2/UART14.DE/UART14.RTS/SPI7.SCLK/MCAN6.STBY/PWM3.P2/TRGM.P26/SDM1.DAT1/CPU0.NMI/ETH0.EVTO3/TSW0.EVTO3/ADC2.IN01/ADC3.IN01/ACMP4.INN6/ACMP5.INN6/ACMP6.INN6/ACMP7.INN6, P7 PF17/GPTMR7.CAPT0/UART12.RXD/MCAN4.RXD/PWM2.P1/TRGM.P17/SDM0.CLK0/ADC2.IN12/ADC3.IN12/ACMP5.INN7/ACMP7.INN7, P8 PF18/GPTMR7.COMP1/UART12.DE/UART12.RTS/I2C6.SCL/MCAN4.STBY/PWM2.P2/TRGM.P18/SDM0.DAT1/USB0.PWR/ETH0.EVTO0/TSW0.EVTO0/ESC0.EVTO0/ADC2.IN13/ADC3.IN13/ACMP4.INP7/ACMP6.INP7, P9 PF15/GPTMR4.COMP3/UART11.TXD/SPI4.DAT3/MCAN3.TXD/TSW0.P1_RXER/ESC0.P2_RXER/PWM1.P7/TRGM.P15/ETH0.TXER/QEI3.A/QEO3.A/SEI3.TX/ADC0.IN07/ADC1.IN07/ACMP0.INP1/ACMP1.INP1/ACMP2.INP1/ACMP3.INP1, P10 PF10/GPTMR4.COMP2/UART10.DE/UART10.RTS/SPI4.SCLK/MCAN2.STBY/TSW0.P3_RXD1/ESC0.P1_RXD1/PWM1.P2/TRGM.P10/ETH0.RXD1/QEI3.F/QEO2.Z/SEI2.DE/ADC0.IN01/ADC1.IN01/ACMP0.INN6/ACMP1.INN6/ACMP2.INN6/ACMP3.INN6, P11 PF02/GPTMR5.COMP1/UART8.DE/UART8.RTS/I2C2.SCL/MCAN0.STBY/TSW0.P3_TXCK/ESC0.P1_TXCK/PWM0.P2/TRGM.P02/ETH0.TXCK/QEI0.H1/QEO1.Z/SEI1.DE/ADC0.IN11/ADC1.IN11/ACMP1.INP7/ACMP3.INP7, P12 PF06/GPTMR4.CAPT0/UART9.RXD/I2C3.SDA/SPI5.MISO/TSW0.P3_TXD3/ESC0.P1_TXD3/PWM0.P6/TRGM.P06/ETH0.TXD3/QEI0.B/QEO0.B/SEI0.RX/ADC0.IN14/ADC1.IN14/ACMP0.INN5/ACMP1.INN5/ACMP2.INN5/ACMP3.INN5
part J pins: H6 VDD_PHY1CAP, J6 VDD_PHY0CAP, K7 VDD_OTPCAP, K8 VDD_PMCCAP, N4 VBAT, P4 VPMC
part A text: DCDC_Domain; DCDC; Analog_Domain
part D text: PA00-PA09; PA16-PA31
part E text: PB00-PB11; PB24-PB31
part F text: PC00-PC31
part G text: PD00-PD31
part H text: PE00-PE05
part I text: PF00-PF31

## JW5116FESOP#TRPBF
designator *
pins: 1 SW, 2 EN, 3 COMP, 4 FB, 5 GND, 6 RT, 7 VIN, 8 BST, 9 EP

## LDL1117S33R
designator *
pins: 1 GND, 2 VOUT, 3 VIN, 4 VOUT

## LED_GREEN
designator *
pins: 1 K, 2 A

## LED_RED
designator *
pins: 1 K, 2 A

## MF52A103F3950
designator *
pins: 1, 2

## MP1907GQ–Z
designator *
pins: 1 VDD, 2 NC, 3 BST, 4 DRVH, 5 SW, 6 EN, 7 INH, 8 INL, 9 VSS, 10 DRVL, 11 EPAD

## PSMN1R4-40YLD
designator *
pins: 1 S, 2 S, 3 S, 4 G, 5 D

## PSMN1R4-40YLD_1
designator *
pins: 1 S, 2 S, 3 S, 4 G, 5 D

## SMCJ28A
designator *
pins: 1 C, 2 A

## SS34A
designator *
pins: 1 K, 2 A

## TestPoint-0.5mm
designator *
pins: 1

## TestPoint-1.0mm
designator *
pins: 1

## TP2274-SR
designator *
part A pins: 1, 2, 3, 4 V+, 11 V-
part B pins: 5, 6, 7
part C pins: 8, 9, 10
part D pins: 12, 13, 14

## TPS564201DDCR
designator *
pins: 1 GND, 2 SW, 3 VIN, 4 VFB, 5 EN, 6 VBST

## 固态电容 _220uF,35V_SMD
designator *
pins: 1, 2

## 磁珠-100Ω@100MHz_2A_0603
designator *
pins: 1, 2

## 磁珠-100Ω@100MHz_2A_0805
designator *
pins: 1, 2

## 磁珠-600Ω@100MHz_1.3A_0603
designator *
pins: 1, 2

## 网口变压器11FB-05NL
designator *
pins: 1 TD+, 2 CT, 3 TD-, 4, 5, 6 RD+, 7 CT, 8 RD-, 9 RX-, 10 CT, 11 RX+, 12, 13, 14 TX-, 15 CT, 16 TX+